# Altium integrated library Analog Devices Data Converters Digital-to-Analog Converters.IntLib: 2231 symbols (part 35 of 181)
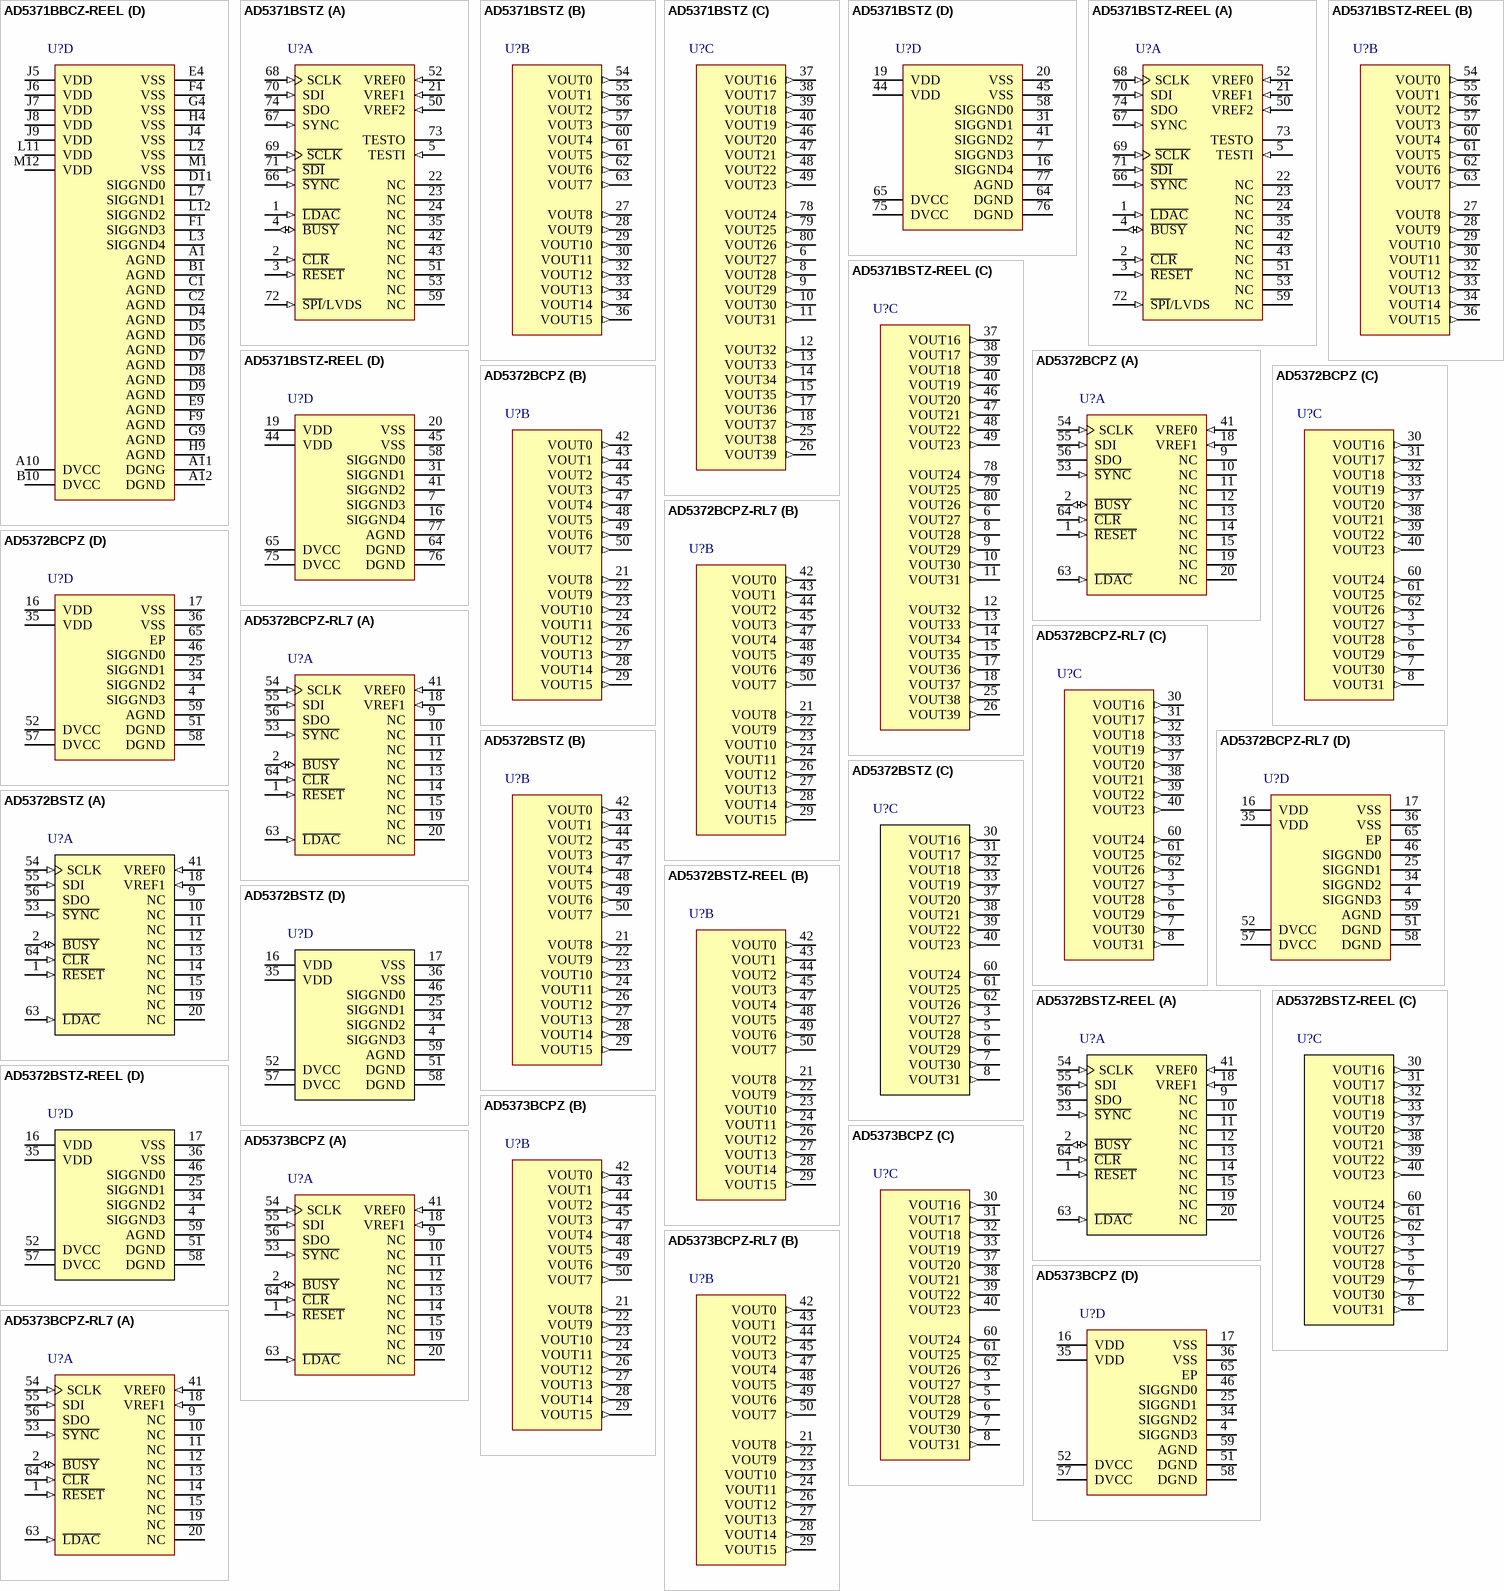
[diagram p148: symbols AD5371BBCZ-REEL to AD5373BCPZ-RL7]

## AD5371BBCZ-REEL
designator U?
14-Bit Voltage Output Digital-to-Analog Converter with Serial Interface, -40 to +85 degC, BC-100-2, Pb-Free, Reel; Generic Part Number: AD5371; Manufacturer: Analog Devices; PartNumber: AD5371BBCZ-REEL; # DAC Outputs: 40; Max V+: 16.5V; Op Pwr Diss: 580mW; Resolution (Bits): 14; Settling Time: 20µs; Single Supply: No; DatasheetVersion: Rev.B; PackageVersion: 012006-0; PackageReference: BC-100-2; PackageDescription: 100-Ball Chip Scale Package Ball Grid Array [CSP_BGA]; Supplier 1: Digi-Key; Supplier Part Number 1: AD5371BBCZ-REELTR-ND; Supplier 2: Digi-Key; Supplier Part Number 2: AD5371BBCZ-REELCT-ND; Supplier 3: Digi-Key; Supplier Part Number 3: AD5371BBCZ-REELDKR-ND; Supplier 4: Mouser; Supplier Part Number 4: 584-AD5371BBCZ-R; Packing: Reel; RoHS: Y; Mounting Technology: Surface Mount; Code_JEDEC: MO-205-AC*; ComponentLink1Description: Manufacturer URL; ComponentLink1URL: http://www.analog.com/en/index.html; ComponentLink2Description: Datasheet; ComponentLink2URL: http://www.analog.com/static/imported-files/data_sheets/AD5371.pdf; ComponentLink3Description: Package Specification; ComponentLink3URL: http://www.analog.com/static/imported-files/packages/PKG_PDF/CSPBGA%20(BC)/BC_100_2.pdf; ComponentLink4Description: Product URL; ComponentLink4URL: http://www.analog.com/en/digital-to-analog-converters/da-converters/ad5371/products/product.html
footprint BC-100-2 (BGA, 100-Leads, Body 10x10mm, Pitch 0.8mm)
part A pins: A2 NC "No Connect. Do not connect these pins.", A3 ~{CLR} (in) "Asynchronous Clear Input (Level Sensitive, Active Low). See the Clear Function section for more information.", A4 ~{LDAC} (in) "Load DAC Logic Input (Active Low). See the B\U\S\Y\ and L\D\A\C\ Functions section for more information.", A5 TESTO "Test Output Pin. This pin remains unconnected.", A6 ~{SPI}/LVDS (in) "Interface Selection Pin. If the pin is low, the SPI interface is selected. If the pin is high, the LVDS interface is selected.", A7 SDI (in) "Serial Data Input for SPI or LVDS Interface. See the Timing Characteristics section for more details.", A8 SCLK (in) "Serial Clock Input for SPI or LVDS Interface. See the Timing Characteristics section for more details.", A9 ~{SYNC} (in) "Active Low or Differential S\Y\N\C\ Input (Complement) for SPI or LVDS Interface. This is the frame synchronization signal for the SPI or LVDS serial interface. See the Timing Characteristics section for more details.", B2 TESTI (in) "Test Input Pin. Connect this pin to DGND.", B3 ~{BUSY} (io) "Digital Input/Open-Drain Output. B\U\S\Y\ is open drain when an output. See the B\U\S\Y\ and L\D\A\C\ Functions section for more information.", B4 ~{RESET} (in) "Digital Reset Input.", B5 SDO (hiz) "Serial Data Output for SPI Interface. CMOS output. SDO can be used for readback. Data is clocked out on SDO on the rising edge of SCLK and is valid on the falling edge of SCLK.", B6 NC "No Connect. Do not connect these pins.", B7 ~{SDI} (in) "Differential Serial Data Input (Complement) for LVDS Interface. See the Timing Characteristicssection for more details.", B8 ~{SCLK} (in) "Differential Serial Clock Input (Complement) for LVDS Interface. See the Timing Characteristics section for more details.", B9 SYNC (in) "Differential SYNC Input for LVDS Interface. This is the frame synchronization signal for the LVDS serial interface. See the Timing Characteristics section for more details.", F2 NC "No Connect. Do not connect these pins.", F11 NC, G1 NC "No Connect. Do not connect these pins.", G11 NC "No Connect. Do not connect these pins.", G12 VREF0 (in) "Reference Input for DAC 0 to DAC 7. This reference voltage is referred to AGND.", H11 VREF2 (in) "Reference Input for DAC 16 to DAC 39. This reference voltage is referred to AGND.", M4 VREF1 (in) "Reference Input for DAC 8 to DAC 15. This reference voltage is referred to AGND."
part B pins: B11 VOUT7 (out) "DAC Output. Buffered analog outputs for each of the 40 DAC channels. Each analog output is capable of driving an output load of 10 k ohm to ground. Typical output impedance of these amplifiers is 0.5 ohm.", B12 VOUT6 (out) "DAC Output. Buffered analog outputs for each of the 40 DAC channels. Each analog output is capable of driving an output load of 10 k ohm to ground. Typical output impedance of these amplifiers is 0.5 ohm.", C11 VOUT5 (out) "DAC Output. Buffered analog outputs for each of the 40 DAC channels. Each analog output is capable of driving an output load of 10 k ohm to ground. Typical output impedance of these amplifiers is 0.5 ohm.", C12 VOUT4 (out) "DAC Output. Buffered analog outputs for each of the 40 DAC channels. Each analog output is capable of driving an output load of 10 k ohm to ground. Typical output impedance of these amplifiers is 0.5 ohm.", D12 VOUT3 (out) "DAC Output. Buffered analog outputs for each of the 40 DAC channels. Each analog output is capable of driving an output load of 10 k ohm to ground. Typical output impedance of these amplifiers is 0.5 ohm.", E11 VOUT2 (out) "DAC Output. Buffered analog outputs for each of the 40 DAC channels. Each analog output is capable of driving an output load of 10 k ohm to ground. Typical output impedance of these amplifiers is 0.5 ohm.", E12 VOUT1 (out) "DAC Output. Buffered analog outputs for each of the 40 DAC channels. Each analog output is capable of driving an output load of 10 k ohm to ground. Typical output impedance of these amplifiers is 0.5 ohm.", F12 VOUT0 (out) "DAC Output. Buffered analog outputs for each of the 40 DAC channels. Each analog output is capable of driving an output load of 10 k ohm to ground. Typical output impedance of these amplifiers is 0.5 ohm.", L5 VOUT8 (out) "DAC Output. Buffered analog outputs for each of the 40 DAC channels. Each analog output is capable of driving an output load of 10 k ohm to ground. Typical output impedance of these amplifiers is 0.5 ohm.", L6 VOUT10 (out) "DAC Output. Buffered analog outputs for each of the 40 DAC channels. Each analog output is capable of driving an output load of 10 k ohm to ground. Typical output impedance of these amplifiers is 0.5 ohm.", L8 VOUT13 (out) "DAC Output. Buffered analog outputs for each of the 40 DAC channels. Each analog output is capable of driving an output load of 10 k ohm to ground. Typical output impedance of these amplifiers is 0.5 ohm.", L9 VOUT15 (out) "DAC Output. Buffered analog outputs for each of the 40 DAC channels. Each analog output is capable of driving an output load of 10 k ohm to ground. Typical output impedance of these amplifiers is 0.5 ohm.", M6 VOUT9 (out) "DAC Output. Buffered analog outputs for each of the 40 DAC channels. Each analog output is capable of driving an output load of 10 k ohm to ground. Typical output impedance of these amplifiers is 0.5 ohm.", M7 VOUT11 (out) "DAC Output. Buffered analog outputs for each of the 40 DAC channels. Each analog output is capable of driving an output load of 10 k ohm to ground. Typical output impedance of these amplifiers is 0.5 ohm.", M8 VOUT12 (out) "DAC Output. Buffered analog outputs for each of the 40 DAC channels. Each analog output is capable of driving an output load of 10 k ohm to ground. Typical output impedance of these amplifiers is 0.5 ohm.", M9 VOUT14 (out) "DAC Output. Buffered analog outputs for each of the 40 DAC channels. Each analog output is capable of driving an output load of 10 k ohm to ground. Typical output impedance of these amplifiers is 0.5 ohm."
part C pins: D1 VOUT26 (out) "DAC Output. Buffered analog outputs for each of the 40 DAC channels. Each analog output is capable of driving an output load of 10 k ohm to ground. Typical output impedance of these amplifiers is 0.5 ohm.", D2 VOUT25 (out) "DAC Output. Buffered analog outputs for each of the 40 DAC channels. Each analog output is capable of driving an output load of 10 k ohm to ground. Typical output impedance of these amplifiers is 0.5 ohm.", E1 VOUT27 (out) "DAC Output. Buffered analog outputs for each of the 40 DAC channels. Each analog output is capable of driving an output load of 10 k ohm to ground. Typical output impedance of these amplifiers is 0.5 ohm.", E2 VOUT24 (out) "DAC Output. Buffered analog outputs for each of the 40 DAC channels. Each analog output is capable of driving an output load of 10 k ohm to ground. Typical output impedance of these amplifiers is 0.5 ohm.", G2 VOUT28 (out) "DAC Output. Buffered analog outputs for each of the 40 DAC channels. Each analog output is capable of driving an output load of 10 k ohm to ground. Typical output impedance of these amplifiers is 0.5 ohm.", H1 VOUT29 (out) "DAC Output. Buffered analog outputs for each of the 40 DAC channels. Each analog output is capable of driving an output load of 10 k ohm to ground. Typical output impedance of these amplifiers is 0.5 ohm.", H2 VOUT30 (out) "DAC Output. Buffered analog outputs for each of the 40 DAC channels. Each analog output is capable of driving an output load of 10 k ohm to ground. Typical output impedance of these amplifiers is 0.5 ohm.", H12 VOUT23 (out) "DAC Output. Buffered analog outputs for each of the 40 DAC channels. Each analog output is capable of driving an output load of 10 k ohm to ground. Typical output impedance of these amplifiers is 0.5 ohm.", J1 VOUT31 (out) "DAC Output. Buffered analog outputs for each of the 40 DAC channels. Each analog output is capable of driving an output load of 10 k ohm to ground. Typical output impedance of these amplifiers is 0.5 ohm.", J2 VOUT32 (out) "DAC Output. Buffered analog outputs for each of the 40 DAC channels. Each analog output is capable of driving an output load of 10 k ohm to ground. Typical output impedance of these amplifiers is 0.5 ohm.", J11 VOUT22 (out) "DAC Output. Buffered analog outputs for each of the 40 DAC channels. Each analog output is capable of driving an output load of 10 k ohm to ground. Typical output impedance of these amplifiers is 0.5 ohm.", J12 VOUT21 (out) "DAC Output. Buffered analog outputs for each of the 40 DAC channels. Each analog output is capable of driving an output load of 10 k ohm to ground. Typical output impedance of these amplifiers is 0.5 ohm.", K1 VOUT33 (out) "DAC Output. Buffered analog outputs for each of the 40 DAC channels. Each analog output is capable of driving an output load of 10 k ohm to ground. Typical output impedance of these amplifiers is 0.5 ohm.", K2 VOUT34 (out) "DAC Output. Buffered analog outputs for each of the 40 DAC channels. Each analog output is capable of driving an output load of 10 k ohm to ground. Typical output impedance of these amplifiers is 0.5 ohm.", K11 VOUT19 (out) "DAC Output. Buffered analog outputs for each of the 40 DAC channels. Each analog output is capable of driving an output load of 10 k ohm to ground. Typical output impedance of these amplifiers is 0.5 ohm.", K12 VOUT20 (out) "DAC Output. Buffered analog outputs for each of the 40 DAC channels. Each analog output is capable of driving an output load of 10 k ohm to ground. Typical output impedance of these amplifiers is 0.5 ohm.", L1 VOUT35 (out) "DAC Output. Buffered analog outputs for each of the 40 DAC channels. Each analog output is capable of driving an output load of 10 k ohm to ground. Typical output impedance of these amplifiers is 0.5 ohm.", L4 VOUT38 (out) "DAC Output. Buffered analog outputs for each of the 40 DAC channels. Each analog output is capable of driving an output load of 10 k ohm to ground. Typical output impedance of these amplifiers is 0.5 ohm.", L10 VOUT17 (out) "DAC Output. Buffered analog outputs for each of the 40 DAC channels. Each analog output is capable of driving an output load of 10 k ohm to ground. Typical output impedance of these amplifiers is 0.5 ohm.", M2 VOUT36 (out) "DAC Output. Buffered analog outputs for each of the 40 DAC channels. Each analog output is capable of driving an output load of 10 k ohm to ground. Typical output impedance of these amplifiers is 0.5 ohm.", M3 VOUT37 (out) "DAC Output. Buffered analog outputs for each of the 40 DAC channels. Each analog output is capable of driving an output load of 10 k ohm to ground. Typical output impedance of these amplifiers is 0.5 ohm.", M5 VOUT39 (out) "DAC Output. Buffered analog outputs for each of the 40 DAC channels. Each analog output is capable of driving an output load of 10 k ohm to ground. Typical output impedance of these amplifiers is 0.5 ohm.", M10 VOUT16 (out) "DAC Output. Buffered analog outputs for each of the 40 DAC channels. Each analog output is capable of driving an output load of 10 k ohm to ground. Typical output impedance of these amplifiers is 0.5 ohm.", M11 VOUT18 (out) "DAC Output. Buffered analog outputs for each of the 40 DAC channels. Each analog output is capable of driving an output load of 10 k ohm to ground. Typical output impedance of these amplifiers is 0.5 ohm."
part D pins: A1 AGND (power) "Ground for All Analog Circuitry. Connect the AGND pin to the AGND plane.", A10 DVCC (power) "Logic Power Supply; 2.5 V to 5.5 V. Decouple these pins with 0.1 uF ceramic capacitors and 10 uF capacitors.", A11 DGNG (power) "Ground for All Digital Circuitry. Connect both DGND pins to the DGND plane.", A12 DGND (power) "Ground for All Digital Circuitry. Connect both DGND pins to the DGND plane.", B1 AGND (power) "Ground for All Analog Circuitry. Connect the AGND pin to the AGND plane.", B10 DVCC (power) "Logic Power Supply; 2.5 V to 5.5 V. Decouple these pins with 0.1 uF ceramic capacitors and 10 uF capacitors.", C1 AGND (power) "Ground for All Analog Circuitry. Connect the AGND pin to the AGND plane.", C2 AGND (power) "Ground for All Analog Circuitry. Connect the AGND pin to the AGND plane.", D4 AGND (power) "Ground for All Analog Circuitry. Connect the AGND pin to the AGND plane.", D5 AGND (power) "Ground for All Analog Circuitry. Connect the AGND pin to the AGND plane.", D6 AGND (power) "Ground for All Analog Circuitry. Connect the AGND pin to the AGND plane.", D7 AGND (power) "Ground for All Analog Circuitry. Connect the AGND pin to the AGND plane.", D8 AGND (power) "Ground for All Analog Circuitry. Connect the AGND pin to the AGND plane.", D9 AGND (power) "Ground for All Analog Circuitry. Connect the AGND pin to the AGND plane.", D11 SIGGND0 (power) "Reference Ground for DAC 0 to DAC 7. VOUT0 to VOUT7 are referenced to this voltage.", E4 VSS (power) "Negative Analog Power Supply; ?16.5 V to ?8 V for specified performance. Decouple these pins with 0.1 uF ceramic capacitors and 10 uF capacitors.", E9 AGND (power) "Ground for All Analog Circuitry. Connect the AGND pin to the AGND plane.", F1 SIGGND3 (power) "Reference Ground for DAC 24 to DAC 31. VOUT24 to VOUT31 are referenced to this voltage.", F4 VSS (power) "Negative Analog Power Supply; ?16.5 V to ?8 V for specified performance. Decouple these pins with 0.1 uF ceramic capacitors and 10 uF capacitors.", F9 AGND (power) "No Connect. Do not connect these pins.", G4 VSS (power) "Negative Analog Power Supply; ?16.5 V to ?8 V for specified performance. Decouple these pins with 0.1 uF ceramic capacitors and 10 uF capacitors.", G9 AGND (power) "Ground for All Analog Circuitry. Connect the AGND pin to the AGND plane.", H4 VSS (power) "Negative Analog Power Supply; ?16.5 V to ?8 V for specified performance. Decouple these pins with 0.1 uF ceramic capacitors and 10 uF capacitors.", H9 AGND (power) "Ground for All Analog Circuitry. Connect the AGND pin to the AGND plane.", J4 VSS (power) "Negative Analog Power Supply; ?16.5 V to ?8 V for specified performance. Decouple these pins with 0.1 uF ceramic capacitors and 10 uF capacitors.", J5 VDD (power) "Positive Analog Power Supply; 9 V to 16.5 V for specified performance. Decouple these pins with 0.1 uF ceramic capacitors and 10 uF capacitors.", J6 VDD (power) "Positive Analog Power Supply; 9 V to 16.5 V for specified performance. Decouple these pins with 0.1 uF ceramic capacitors and 10 uF capacitors.", J7 VDD (power) "Positive Analog Power Supply; 9 V to 16.5 V for specified performance. Decouple these pins with 0.1 uF ceramic capacitors and 10 uF capacitors.", J8 VDD (power) "Positive Analog Power Supply; 9 V to 16.5 V for specified performance. Decouple these pins with 0.1 uF ceramic capacitors and 10 uF capacitors.", J9 VDD (power) "Positive Analog Power Supply; 9 V to 16.5 V for specified performance. Decouple these pins with 0.1 uF ceramic capacitors and 10 uF capacitors.", L2 VSS (power) "Negative Analog Power Supply; -16.5 V to ?8 V for specified performance. Decouple these pins with 0.1 uF ceramic capacitors and 10 uF capacitors.", L3 SIGGND4 (power) "Reference Ground for DAC 32 to DAC 39. VOUT32 to VOUT39 are referenced to this voltage.", L7 SIGGND1 (power) "Reference Ground for DAC 8 to DAC 15. VOUT8 to VOUT15 are referenced to this voltage.", L11 VDD (power) "Positive Analog Power Supply; 9 V to 16.5 V for specified performance. Decouple these pins with 0.1 uF ceramic capacitors and 10 uF capacitors.", L12 SIGGND2 (power) "Reference Ground for DAC 16 to DAC 23. VOUT16 to VOUT23 are referenced to this voltage.", M1 VSS (power) "Negative Analog Power Supply; -16.5 V to ?8 V for specified performance. Decouple these pins with 0.1 uF ceramic capacitors and 10 uF capacitors.", M12 VDD (power) "Positive Analog Power Supply; 9 V to 16.5 V for specified performance. Decouple these pins with 0.1 uF ceramic capacitors and 10 uF capacitors."

## AD5371BSTZ
designator U?
14-Bit Voltage Output Digital-to-Analog Converter with Serial Interface, -40 to +85 degC, ST-80-1, Pb-Free, Tray; Generic Part Number: AD5371; Manufacturer: Analog Devices; PartNumber: AD5371BSTZ; # DAC Outputs: 40; Max V+: 16.5V; Op Pwr Diss: 580mW; Resolution (Bits): 14; Settling Time: 20µs; Single Supply: No; DatasheetVersion: Rev.B; PackageVersion: Jan-2005; PackageReference: ST-80-1; PackageDescription: 80-Pin Low Profile Quad Flat Pack [LQFP]; Supplier 1: Digi-Key; Supplier Part Number 1: AD5371BSTZ-ND; Supplier 2: Mouser; Supplier Part Number 2: 584-AD5371BSTZ; Packing: Tray; RoHS: Y; Mounting Technology: Surface Mount; Code_JEDEC: MS-026-BDD; ComponentLink1Description: Manufacturer URL; ComponentLink1URL: http://www.analog.com/en/index.html; ComponentLink2Description: Datasheet; ComponentLink2URL: http://www.analog.com/static/imported-files/data_sheets/AD5371.pdf; ComponentLink3Description: Package Specification; ComponentLink3URL: http://www.analog.com/static/imported-files/packages/3584137164565846937ST_80_1.pdf; ComponentLink4Description: Product URL; ComponentLink4URL: http://www.analog.com/en/digital-to-analog-converters/da-converters/ad5371/products/product.html
footprint ST-80-1_N (Thin QFP, 80-Leads, Body 12x12mm, Pitch 0.5mm, IPC Medium Density)
footprint ST-80-1_L (Thin QFP, 80-Leads, Body 12x12mm, Pitch 0.5mm, IPC High Density)
footprint ST-80-1_M (Thin QFP, 80-Leads, Body 12x12mm, Pitch 0.5mm, IPC Low Density)
part A pins: 1 ~{LDAC} (in) "Load DAC Logic Input (Active Low). See the B\U\S\Y\ and L\D\A\C\ Functions section for more information.", 2 ~{CLR} (in) "Asynchronous Clear Input (Level Sensitive, Active Low). See the Clear Function section for more information.", 3 ~{RESET} (in) "Digital Reset Input.", 4 ~{BUSY} (io) "Digital Input/Open-Drain Output. B\U\S\Y\ is open drain when an output. See the B\U\S\Y\ and L\D\A\C\ Functions section for more information.", 5 TESTI (in) "Test Input Pin. Connect this pin to DGND.", 21 VREF1 (in) "Reference Input for DAC 8 to DAC 15. This reference voltage is referred to AGND.", 22 NC "No Connect. Do not connect these pins.", 23 NC "No Connect. Do not connect these pins.", 24 NC "No Connect. Do not connect these pins.", 35 NC "No Connect. Do not connect these pins.", 42 NC "No Connect. Do not connect these pins.", 43 NC "No Connect. Do not connect these pins.", 50 VREF2 (in) "Reference Input for DAC 16 to DAC 39. This reference voltage is referred to AGND.", 51 NC "No Connect. Do not connect these pins.", 52 VREF0 (in) "Reference Input for DAC 0 to DAC 7. This reference voltage is referred to AGND.", 53 NC "No Connect. Do not connect these pins.", 59 NC "No Connect. Do not connect these pins.", 66 ~{SYNC} (in) "Active Low or Differential S\Y\N\C\ Input (Complement) for SPI or LVDS Interface. This is the frame synchronization signal for the SPI or LVDS serial interface. See the Timing Characteristics section for more details.", 67 SYNC (in) "Differential SYNC Input for LVDS Interface. This is the frame synchronization signal for the LVDS serial interface. See the Timing Characteristics section for more details.", 68 SCLK (in) "Serial Clock Input for SPI or LVDS Interface. See the Timing Characteristics section for more details.", 69 ~{SCLK} (in) "Differential Serial Clock Input (Complement) for LVDS Interface. See the Timing Characteristics section for more details.", 70 SDI (in) "Serial Data Input for SPI or LVDS Interface. See the Timing Characteristics section for more details.", 71 ~{SDI} (in) "Differential Serial Data Input (Complement) for LVDS Interface. See the Timing Characteristicssection for more details.", 72 ~{SPI}/LVDS (in) "Interface Selection Pin. If the pin is low, the SPI interface is selected. If the pin is high, the LVDS interface is selected.", 73 TESTO "Test Output Pin. This pin remains unconnected.", 74 SDO (hiz) "Serial Data Output for SPI Interface. CMOS output. SDO can be used for readback. Data is clocked out on SDO on the rising edge of SCLK and is valid on the falling edge of SCLK."
part B pins: 27 VOUT8 (out) "DAC Output.Buffered analog outputs for each of the 40 DAC channels. Each analog output is capable of driving an output load of 10 k ohm to ground. Typical output impedance of these amplifiers is 0.5 ohm.", 28 VOUT9 (out) "DAC Output.Buffered analog outputs for each of the 40 DAC channels. Each analog output is capable of driving an output load of 10 k ohm to ground. Typical output impedance of these amplifiers is 0.5 ohm.", 29 VOUT10 (out) "DAC Output.Buffered analog outputs for each of the 40 DAC channels. Each analog output is capable of driving an output load of 10 k ohm to ground. Typical output impedance of these amplifiers is 0.5 ohm.", 30 VOUT11 (out) "DAC Output.Buffered analog outputs for each of the 40 DAC channels. Each analog output is capable of driving an output load of 10 k ohm to ground. Typical output impedance of these amplifiers is 0.5 ohm.", 32 VOUT12 (out) "DAC Output.Buffered analog outputs for each of the 40 DAC channels. Each analog output is capable of driving an output load of 10 k ohm to ground. Typical output impedance of these amplifiers is 0.5 ohm.", 33 VOUT13 (out) "DAC Output.Buffered analog outputs for each of the 40 DAC channels. Each analog output is capable of driving an output load of 10 k ohm to ground. Typical output impedance of these amplifiers is 0.5 ohm.", 34 VOUT14 (out) "DAC Output.Buffered analog outputs for each of the 40 DAC channels. Each analog output is capable of driving an output load of 10 k ohm to ground. Typical output impedance of these amplifiers is 0.5 ohm.", 36 VOUT15 (out) "DAC Output.Buffered analog outputs for each of the 40 DAC channels. Each analog output is capable of driving an output load of 10 k ohm to ground. Typical output impedance of these amplifiers is 0.5 ohm.", 54 VOUT0 (out) "DAC Output.Buffered analog outputs for each of the 40 DAC channels. Each analog output is capable of driving an output load of 10 k ohm to ground. Typical output impedance of these amplifiers is 0.5 ohm.", 55 VOUT1 (out) "DAC Output.Buffered analog outputs for each of the 40 DAC channels. Each analog output is capable of driving an output load of 10 k ohm to ground. Typical output impedance of these amplifiers is 0.5 ohm.", 56 VOUT2 (out) "DAC Output.Buffered analog outputs for each of the 40 DAC channels. Each analog output is capable of driving an output load of 10 k ohm to ground. Typical output impedance of these amplifiers is 0.5 ohm.", 57 VOUT3 (out) "DAC Output.Buffered analog outputs for each of the 40 DAC channels. Each analog output is capable of driving an output load of 10 k ohm to ground. Typical output impedance of these amplifiers is 0.5 ohm.", 60 VOUT4 (out) "DAC Output.Buffered analog outputs for each of the 40 DAC channels. Each analog output is capable of driving an output load of 10 k ohm to ground. Typical output impedance of these amplifiers is 0.5 ohm.", 61 VOUT5 (out) "DAC Output.Buffered analog outputs for each of the 40 DAC channels. Each analog output is capable of driving an output load of 10 k ohm to ground. Typical output impedance of these amplifiers is 0.5 ohm.", 62 VOUT6 (out) "DAC Output.Buffered analog outputs for each of the 40 DAC channels. Each analog output is capable of driving an output load of 10 k ohm to ground. Typical output impedance of these amplifiers is 0.5 ohm.", 63 VOUT7 (out) "DAC Output.Buffered analog outputs for each of the 40 DAC channels. Each analog output is capable of driving an output load of 10 k ohm to ground. Typical output impedance of these amplifiers is 0.5 ohm."
part C pins: 6 VOUT27 (out) "DAC Output.Buffered analog outputs for each of the 40 DAC channels. Each analog output is capable of driving an output load of 10 k ohm to ground. Typical output impedance of these amplifiers is 0.5 ohm.", 8 VOUT28 (out) "DAC Output.Buffered analog outputs for each of the 40 DAC channels. Each analog output is capable of driving an output load of 10 k ohm to ground. Typical output impedance of these amplifiers is 0.5 ohm.", 9 VOUT29 (out) "DAC Output.Buffered analog outputs for each of the 40 DAC channels. Each analog output is capable of driving an output load of 10 k ohm to ground. Typical output impedance of these amplifiers is 0.5 ohm.", 10 VOUT30 (out) "DAC Output.Buffered analog outputs for each of the 40 DAC channels. Each analog output is capable of driving an output load of 10 k ohm to ground. Typical output impedance of these amplifiers is 0.5 ohm.", 11 VOUT31 (out) "DAC Output.Buffered analog outputs for each of the 40 DAC channels. Each analog output is capable of driving an output load of 10 k ohm to ground. Typical output impedance of these amplifiers is 0.5 ohm.", 12 VOUT32 (out) "DAC Output.Buffered analog outputs for each of the 40 DAC channels. Each analog output is capable of driving an output load of 10 k ohm to ground. Typical output impedance of these amplifiers is 0.5 ohm.", 13 VOUT33 (out) "DAC Output.Buffered analog outputs for each of the 40 DAC channels. Each analog output is capable of driving an output load of 10 k ohm to ground. Typical output impedance of these amplifiers is 0.5 ohm.", 14 VOUT34 (out) "DAC Output.Buffered analog outputs for each of the 40 DAC channels. Each analog output is capable of driving an output load of 10 k ohm to ground. Typical output impedance of these amplifiers is 0.5 ohm.", 15 VOUT35 (out) "DAC Output.Buffered analog outputs for each of the 40 DAC channels. Each analog output is capable of driving an output load of 10 k ohm to ground. Typical output impedance of these amplifiers is 0.5 ohm.", 17 VOUT36 (out) "DAC Output.Buffered analog outputs for each of the 40 DAC channels. Each analog output is capable of driving an output load of 10 k ohm to ground. Typical output impedance of these amplifiers is 0.5 ohm.", 18 VOUT37 (out) "DAC Output.Buffered analog outputs for each of the 40 DAC channels. Each analog output is capable of driving an output load of 10 k ohm to ground. Typical output impedance of these amplifiers is 0.5 ohm.", 25 VOUT38 (out) "DAC Output.Buffered analog outputs for each of the 40 DAC channels. Each analog output is capable of driving an output load of 10 k ohm to ground. Typical output impedance of these amplifiers is 0.5 ohm.", 26 VOUT39 (out) "DAC Output.Buffered analog outputs for each of the 40 DAC channels. Each analog output is capable of driving an output load of 10 k ohm to ground. Typical output impedance of these amplifiers is 0.5 ohm.", 37 VOUT16 (out) "DAC Output.Buffered analog outputs for each of the 40 DAC channels. Each analog output is capable of driving an output load of 10 k ohm to ground. Typical output impedance of these amplifiers is 0.5 ohm.", 38 VOUT17 (out) "DAC Output.Buffered analog outputs for each of the 40 DAC channels. Each analog output is capable of driving an output load of 10 k ohm to ground. Typical output impedance of these amplifiers is 0.5 ohm.", 39 VOUT18 (out) "DAC Output.Buffered analog outputs for each of the 40 DAC channels. Each analog output is capable of driving an output load of 10 k ohm to ground. Typical output impedance of these amplifiers is 0.5 ohm.", 40 VOUT19 (out) "DAC Output.Buffered analog outputs for each of the 40 DAC channels. Each analog output is capable of driving an output load of 10 k ohm to ground. Typical output impedance of these amplifiers is 0.5 ohm.", 46 VOUT20 (out) "DAC Output.Buffered analog outputs for each of the 40 DAC channels. Each analog output is capable of driving an output load of 10 k ohm to ground. Typical output impedance of these amplifiers is 0.5 ohm.", 47 VOUT21 (out) "DAC Output.Buffered analog outputs for each of the 40 DAC channels. Each analog output is capable of driving an output load of 10 k ohm to ground. Typical output impedance of these amplifiers is 0.5 ohm.", 48 VOUT22 (out) "DAC Output.Buffered analog outputs for each of the 40 DAC channels. Each analog output is capable of driving an output load of 10 k ohm to ground. Typical output impedance of these amplifiers is 0.5 ohm.", 49 VOUT23 (out) "DAC Output.Buffered analog outputs for each of the 40 DAC channels. Each analog output is capable of driving an output load of 10 k ohm to ground. Typical output impedance of these amplifiers is 0.5 ohm.", 78 VOUT24 (out) "DAC Output.Buffered analog outputs for each of the 40 DAC channels. Each analog output is capable of driving an output load of 10 k ohm to ground. Typical output impedance of these amplifiers is 0.5 ohm.", 79 VOUT25 (out) "DAC Output.Buffered analog outputs for each of the 40 DAC channels. Each analog output is capable of driving an output load of 10 k ohm to ground. Typical output impedance of these amplifiers is 0.5 ohm.", 80 VOUT26 (out) "DAC Output.Buffered analog outputs for each of the 40 DAC channels. Each analog output is capable of driving an output load of 10 k ohm to ground. Typical output impedance of these amplifiers is 0.5 ohm."
part D pins: 7 SIGGND3 (power) "Reference Ground for DAC 24 to DAC 31. VOUT24 to VOUT31 are referenced to this voltage.", 16 SIGGND4 (power) "Reference Ground for DAC 32 to DAC 39. VOUT32 to VOUT39 are referenced to this voltage.", 19 VDD (power) "Positive Analog Power Supply; 9 V to 16.5 V for specified performance. Decouple these pins with 0.1 uF ceramic capacitors and 10 uF capacitors.", 20 VSS (power) "Negative Analog Power Supply; -16.5 V to -8 V for specified performance. Decouple these pins with 0.1 uF ceramic capacitors and 10 uF capacitors.", 31 SIGGND1 (power) "Reference Ground for DAC 8 to DAC 15. VOUT8 to VOUT15 are referenced to this voltage.", 41 SIGGND2 (power) "Reference Ground for DAC 16 to DAC 23. VOUT16 to VOUT23 are referenced to this voltage.", 44 VDD (power) "Positive Analog Power Supply; 9 V to 16.5 V for specified performance. Decouple these pins with 0.1 uF ceramic capacitors and 10 uF capacitors.", 45 VSS (power) "Negative Analog Power Supply; -16.5 V to -8 V for specified performance. Decouple these pins with 0.1 uF ceramic capacitors and 10 uF capacitors.", 58 SIGGND0 (power) "Reference Ground for DAC 0 to DAC 7. VOUT0 to VOUT7 are referenced to this voltage.", 64 DGND (power) "Ground for All Digital Circuitry. Connect both DGND pins to the DGND plane.", 65 DVCC (power) "Logic Power Supply; 2.5 V to 5.5 V. Decouple these pins with 0.1 uF ceramic capacitors and 10 uF capacitors.", 75 DVCC (power) "Logic Power Supply; 2.5 V to 5.5 V. Decouple these pins with 0.1 uF ceramic capacitors and 10 uF capacitors.", 76 DGND (power) "Ground for All Digital Circuitry. Connect both DGND pins to the DGND plane.", 77 AGND (power) "Ground for All Analog Circuitry. Connect the AGND pin to the AGND plane."

## AD5371BSTZ-REEL
designator U?
14-Bit Voltage Output Digital-to-Analog Converter with Serial Interface, -40 to +85 degC, ST-80-1, Pb-Free, Reel; Generic Part Number: AD5371; Manufacturer: Analog Devices; PartNumber: AD5371BSTZ-REEL; # DAC Outputs: 40; Max V+: 16.5V; Op Pwr Diss: 580mW; Resolution (Bits): 14; Settling Time: 20µs; Single Supply: No; DatasheetVersion: Rev.B; PackageVersion: Jan-2005; PackageReference: ST-80-1; PackageDescription: 80-Pin Low Profile Quad Flat Pack [LQFP]; Supplier 1: Digi-Key; Supplier Part Number 1: AD5371BSTZ-REEL-ND; Supplier 2: Mouser; Supplier Part Number 2: 584-AD5371BSTZ-R; Packing: Reel; RoHS: Y; Mounting Technology: Surface Mount; Code_JEDEC: MS-026-BDD; ComponentLink1Description: Manufacturer URL; ComponentLink1URL: http://www.analog.com/en/index.html; ComponentLink2Description: Datasheet; ComponentLink2URL: http://www.analog.com/static/imported-files/data_sheets/AD5371.pdf; ComponentLink3Description: Package Specification; ComponentLink3URL: http://www.analog.com/static/imported-files/packages/3584137164565846937ST_80_1.pdf; ComponentLink4Description: Product URL; ComponentLink4URL: http://www.analog.com/en/digital-to-analog-converters/da-converters/ad5371/products/product.html
footprint ST-80-1_N (Thin QFP, 80-Leads, Body 12x12mm, Pitch 0.5mm, IPC Medium Density)
footprint ST-80-1_L (Thin QFP, 80-Leads, Body 12x12mm, Pitch 0.5mm, IPC High Density)
footprint ST-80-1_M (Thin QFP, 80-Leads, Body 12x12mm, Pitch 0.5mm, IPC Low Density)
part A pins: 1 ~{LDAC} (in) "Load DAC Logic Input (Active Low). See the B\U\S\Y\ and L\D\A\C\ Functions section for more information.", 2 ~{CLR} (in) "Asynchronous Clear Input (Level Sensitive, Active Low). See the Clear Function section for more information.", 3 ~{RESET} (in) "Digital Reset Input.", 4 ~{BUSY} (io) "Digital Input/Open-Drain Output. B\U\S\Y\ is open drain when an output. See the B\U\S\Y\ and L\D\A\C\ Functions section for more information.", 5 TESTI (in) "Test Input Pin. Connect this pin to DGND.", 21 VREF1 (in) "Reference Input for DAC 8 to DAC 15. This reference voltage is referred to AGND.", 22 NC "No Connect. Do not connect these pins.", 23 NC "No Connect. Do not connect these pins.", 24 NC "No Connect. Do not connect these pins.", 35 NC "No Connect. Do not connect these pins.", 42 NC "No Connect. Do not connect these pins.", 43 NC "No Connect. Do not connect these pins.", 50 VREF2 (in) "Reference Input for DAC 16 to DAC 39. This reference voltage is referred to AGND.", 51 NC "No Connect. Do not connect these pins.", 52 VREF0 (in) "Reference Input for DAC 0 to DAC 7. This reference voltage is referred to AGND.", 53 NC "No Connect. Do not connect these pins.", 59 NC "No Connect. Do not connect these pins.", 66 ~{SYNC} (in) "Active Low or Differential S\Y\N\C\ Input (Complement) for SPI or LVDS Interface. This is the frame synchronization signal for the SPI or LVDS serial interface. See the Timing Characteristics section for more details.", 67 SYNC (in) "Differential SYNC Input for LVDS Interface. This is the frame synchronization signal for the LVDS serial interface. See the Timing Characteristics section for more details.", 68 SCLK (in) "Serial Clock Input for SPI or LVDS Interface. See the Timing Characteristics section for more details.", 69 ~{SCLK} (in) "Differential Serial Clock Input (Complement) for LVDS Interface. See the Timing Characteristics section for more details.", 70 SDI (in) "Serial Data Input for SPI or LVDS Interface. See the Timing Characteristics section for more details.", 71 ~{SDI} (in) "Differential Serial Data Input (Complement) for LVDS Interface. See the Timing Characteristicssection for more details.", 72 ~{SPI}/LVDS (in) "Interface Selection Pin. If the pin is low, the SPI interface is selected. If the pin is high, the LVDS interface is selected.", 73 TESTO "Test Output Pin. This pin remains unconnected.", 74 SDO (hiz) "Serial Data Output for SPI Interface. CMOS output. SDO can be used for readback. Data is clocked out on SDO on the rising edge of SCLK and is valid on the falling edge of SCLK."
part B pins: 27 VOUT8 (out) "DAC Output.Buffered analog outputs for each of the 40 DAC channels. Each analog output is capable of driving an output load of 10 k ohm to ground. Typical output impedance of these amplifiers is 0.5 ohm.", 28 VOUT9 (out) "DAC Output.Buffered analog outputs for each of the 40 DAC channels. Each analog output is capable of driving an output load of 10 k ohm to ground. Typical output impedance of these amplifiers is 0.5 ohm.", 29 VOUT10 (out) "DAC Output.Buffered analog outputs for each of the 40 DAC channels. Each analog output is capable of driving an output load of 10 k ohm to ground. Typical output impedance of these amplifiers is 0.5 ohm.", 30 VOUT11 (out) "DAC Output.Buffered analog outputs for each of the 40 DAC channels. Each analog output is capable of driving an output load of 10 k ohm to ground. Typical output impedance of these amplifiers is 0.5 ohm.", 32 VOUT12 (out) "DAC Output.Buffered analog outputs for each of the 40 DAC channels. Each analog output is capable of driving an output load of 10 k ohm to ground. Typical output impedance of these amplifiers is 0.5 ohm.", 33 VOUT13 (out) "DAC Output.Buffered analog outputs for each of the 40 DAC channels. Each analog output is capable of driving an output load of 10 k ohm to ground. Typical output impedance of these amplifiers is 0.5 ohm.", 34 VOUT14 (out) "DAC Output.Buffered analog outputs for each of the 40 DAC channels. Each analog output is capable of driving an output load of 10 k ohm to ground. Typical output impedance of these amplifiers is 0.5 ohm.", 36 VOUT15 (out) "DAC Output.Buffered analog outputs for each of the 40 DAC channels. Each analog output is capable of driving an output load of 10 k ohm to ground. Typical output impedance of these amplifiers is 0.5 ohm.", 54 VOUT0 (out) "DAC Output.Buffered analog outputs for each of the 40 DAC channels. Each analog output is capable of driving an output load of 10 k ohm to ground. Typical output impedance of these amplifiers is 0.5 ohm.", 55 VOUT1 (out) "DAC Output.Buffered analog outputs for each of the 40 DAC channels. Each analog output is capable of driving an output load of 10 k ohm to ground. Typical output impedance of these amplifiers is 0.5 ohm.", 56 VOUT2 (out) "DAC Output.Buffered analog outputs for each of the 40 DAC channels. Each analog output is capable of driving an output load of 10 k ohm to ground. Typical output impedance of these amplifiers is 0.5 ohm.", 57 VOUT3 (out) "DAC Output.Buffered analog outputs for each of the 40 DAC channels. Each analog output is capable of driving an output load of 10 k ohm to ground. Typical output impedance of these amplifiers is 0.5 ohm.", 60 VOUT4 (out) "DAC Output.Buffered analog outputs for each of the 40 DAC channels. Each analog output is capable of driving an output load of 10 k ohm to ground. Typical output impedance of these amplifiers is 0.5 ohm.", 61 VOUT5 (out) "DAC Output.Buffered analog outputs for each of the 40 DAC channels. Each analog output is capable of driving an output load of 10 k ohm to ground. Typical output impedance of these amplifiers is 0.5 ohm.", 62 VOUT6 (out) "DAC Output.Buffered analog outputs for each of the 40 DAC channels. Each analog output is capable of driving an output load of 10 k ohm to ground. Typical output impedance of these amplifiers is 0.5 ohm.", 63 VOUT7 (out) "DAC Output.Buffered analog outputs for each of the 40 DAC channels. Each analog output is capable of driving an output load of 10 k ohm to ground. Typical output impedance of these amplifiers is 0.5 ohm."
part C pins: 6 VOUT27 (out) "DAC Output.Buffered analog outputs for each of the 40 DAC channels. Each analog output is capable of driving an output load of 10 k ohm to ground. Typical output impedance of these amplifiers is 0.5 ohm.", 8 VOUT28 (out) "DAC Output.Buffered analog outputs for each of the 40 DAC channels. Each analog output is capable of driving an output load of 10 k ohm to ground. Typical output impedance of these amplifiers is 0.5 ohm.", 9 VOUT29 (out) "DAC Output.Buffered analog outputs for each of the 40 DAC channels. Each analog output is capable of driving an output load of 10 k ohm to ground. Typical output impedance of these amplifiers is 0.5 ohm.", 10 VOUT30 (out) "DAC Output.Buffered analog outputs for each of the 40 DAC channels. Each analog output is capable of driving an output load of 10 k ohm to ground. Typical output impedance of these amplifiers is 0.5 ohm.", 11 VOUT31 (out) "DAC Output.Buffered analog outputs for each of the 40 DAC channels. Each analog output is capable of driving an output load of 10 k ohm to ground. Typical output impedance of these amplifiers is 0.5 ohm.", 12 VOUT32 (out) "DAC Output.Buffered analog outputs for each of the 40 DAC channels. Each analog output is capable of driving an output load of 10 k ohm to ground. Typical output impedance of these amplifiers is 0.5 ohm.", 13 VOUT33 (out) "DAC Output.Buffered analog outputs for each of the 40 DAC channels. Each analog output is capable of driving an output load of 10 k ohm to ground. Typical output impedance of these amplifiers is 0.5 ohm.", 14 VOUT34 (out) "DAC Output.Buffered analog outputs for each of the 40 DAC channels. Each analog output is capable of driving an output load of 10 k ohm to ground. Typical output impedance of these amplifiers is 0.5 ohm.", 15 VOUT35 (out) "DAC Output.Buffered analog outputs for each of the 40 DAC channels. Each analog output is capable of driving an output load of 10 k ohm to ground. Typical output impedance of these amplifiers is 0.5 ohm.", 17 VOUT36 (out) "DAC Output.Buffered analog outputs for each of the 40 DAC channels. Each analog output is capable of driving an output load of 10 k ohm to ground. Typical output impedance of these amplifiers is 0.5 ohm.", 18 VOUT37 (out) "DAC Output.Buffered analog outputs for each of the 40 DAC channels. Each analog output is capable of driving an output load of 10 k ohm to ground. Typical output impedance of these amplifiers is 0.5 ohm.", 25 VOUT38 (out) "DAC Output.Buffered analog outputs for each of the 40 DAC channels. Each analog output is capable of driving an output load of 10 k ohm to ground. Typical output impedance of these amplifiers is 0.5 ohm.", 26 VOUT39 (out) "DAC Output.Buffered analog outputs for each of the 40 DAC channels. Each analog output is capable of driving an output load of 10 k ohm to ground. Typical output impedance of these amplifiers is 0.5 ohm.", 37 VOUT16 (out) "DAC Output.Buffered analog outputs for each of the 40 DAC channels. Each analog output is capable of driving an output load of 10 k ohm to ground. Typical output impedance of these amplifiers is 0.5 ohm.", 38 VOUT17 (out) "DAC Output.Buffered analog outputs for each of the 40 DAC channels. Each analog output is capable of driving an output load of 10 k ohm to ground. Typical output impedance of these amplifiers is 0.5 ohm.", 39 VOUT18 (out) "DAC Output.Buffered analog outputs for each of the 40 DAC channels. Each analog output is capable of driving an output load of 10 k ohm to ground. Typical output impedance of these amplifiers is 0.5 ohm.", 40 VOUT19 (out) "DAC Output.Buffered analog outputs for each of the 40 DAC channels. Each analog output is capable of driving an output load of 10 k ohm to ground. Typical output impedance of these amplifiers is 0.5 ohm.", 46 VOUT20 (out) "DAC Output.Buffered analog outputs for each of the 40 DAC channels. Each analog output is capable of driving an output load of 10 k ohm to ground. Typical output impedance of these amplifiers is 0.5 ohm.", 47 VOUT21 (out) "DAC Output.Buffered analog outputs for each of the 40 DAC channels. Each analog output is capable of driving an output load of 10 k ohm to ground. Typical output impedance of these amplifiers is 0.5 ohm.", 48 VOUT22 (out) "DAC Output.Buffered analog outputs for each of the 40 DAC channels. Each analog output is capable of driving an output load of 10 k ohm to ground. Typical output impedance of these amplifiers is 0.5 ohm.", 49 VOUT23 (out) "DAC Output.Buffered analog outputs for each of the 40 DAC channels. Each analog output is capable of driving an output load of 10 k ohm to ground. Typical output impedance of these amplifiers is 0.5 ohm.", 78 VOUT24 (out) "DAC Output.Buffered analog outputs for each of the 40 DAC channels. Each analog output is capable of driving an output load of 10 k ohm to ground. Typical output impedance of these amplifiers is 0.5 ohm.", 79 VOUT25 (out) "DAC Output.Buffered analog outputs for each of the 40 DAC channels. Each analog output is capable of driving an output load of 10 k ohm to ground. Typical output impedance of these amplifiers is 0.5 ohm.", 80 VOUT26 (out) "DAC Output.Buffered analog outputs for each of the 40 DAC channels. Each analog output is capable of driving an output load of 10 k ohm to ground. Typical output impedance of these amplifiers is 0.5 ohm."
part D pins: 7 SIGGND3 (power) "Reference Ground for DAC 24 to DAC 31. VOUT24 to VOUT31 are referenced to this voltage.", 16 SIGGND4 (power) "Reference Ground for DAC 32 to DAC 39. VOUT32 to VOUT39 are referenced to this voltage.", 19 VDD (power) "Positive Analog Power Supply; 9 V to 16.5 V for specified performance. Decouple these pins with 0.1 uF ceramic capacitors and 10 uF capacitors.", 20 VSS (power) "Negative Analog Power Supply; -16.5 V to -8 V for specified performance. Decouple these pins with 0.1 uF ceramic capacitors and 10 uF capacitors.", 31 SIGGND1 (power) "Reference Ground for DAC 8 to DAC 15. VOUT8 to VOUT15 are referenced to this voltage.", 41 SIGGND2 (power) "Reference Ground for DAC 16 to DAC 23. VOUT16 to VOUT23 are referenced to this voltage.", 44 VDD (power) "Positive Analog Power Supply; 9 V to 16.5 V for specified performance. Decouple these pins with 0.1 uF ceramic capacitors and 10 uF capacitors.", 45 VSS (power) "Negative Analog Power Supply; -16.5 V to -8 V for specified performance. Decouple these pins with 0.1 uF ceramic capacitors and 10 uF capacitors.", 58 SIGGND0 (power) "Reference Ground for DAC 0 to DAC 7. VOUT0 to VOUT7 are referenced to this voltage.", 64 DGND (power) "Ground for All Digital Circuitry. Connect both DGND pins to the DGND plane.", 65 DVCC (power) "Logic Power Supply; 2.5 V to 5.5 V. Decouple these pins with 0.1 uF ceramic capacitors and 10 uF capacitors.", 75 DVCC (power) "Logic Power Supply; 2.5 V to 5.5 V. Decouple these pins with 0.1 uF ceramic capacitors and 10 uF capacitors.", 76 DGND (power) "Ground for All Digital Circuitry. Connect both DGND pins to the DGND plane.", 77 AGND (power) "Ground for All Analog Circuitry. Connect the AGND pin to the AGND plane."